# Altium schematic symbol library CL31B225KOHNNNE.SchLib: 1 symbol
Pins are listed as number, name and electrical type; pins without a type are passive.

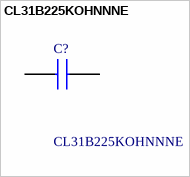
[diagram p0: symbol CL31B225KOHNNNE]

## CL31B225KOHNNNE
designator C?
Samsung Electro-Mechanics 1206 (3216M) 2.2uF Multilayer Ceramic Capacitor MLCC 16V dc +/-10% SMD CL31B225KOHNNNE; Geometry.Height: 1.8mm; Mouser Part Number: 187-CL31B225KOHNNNE; Mouser Price/Stock: https://www.mouser.co.uk/ProductDetail/Samsung-Electro-Mechanics/CL31B225KOHNNNE?qs=349EhDEZ59qnc9OUaaCJmg%3D%3D; Manufacturer_Name: SAMSUNG; Manufacturer_Part_Number: CL31B225KOHNNNE; Datasheet Link: *
footprint CAPC3216X180N
pins: 1, 2